# Altium footprint library 00SMD-R-C-L-Q.PCBLIB: 64 footprints (part 2 of 4)
Each footprint in its own frame and in the unit in brackets; x right, y up, seen from the top. Pads: shape width x height; smd on the part's side, far side on the other; paste and mask are expansions set on the pad; w line width, h text height; cw(c..) or ccw(c..) is an arc to the next point about the centre after c.
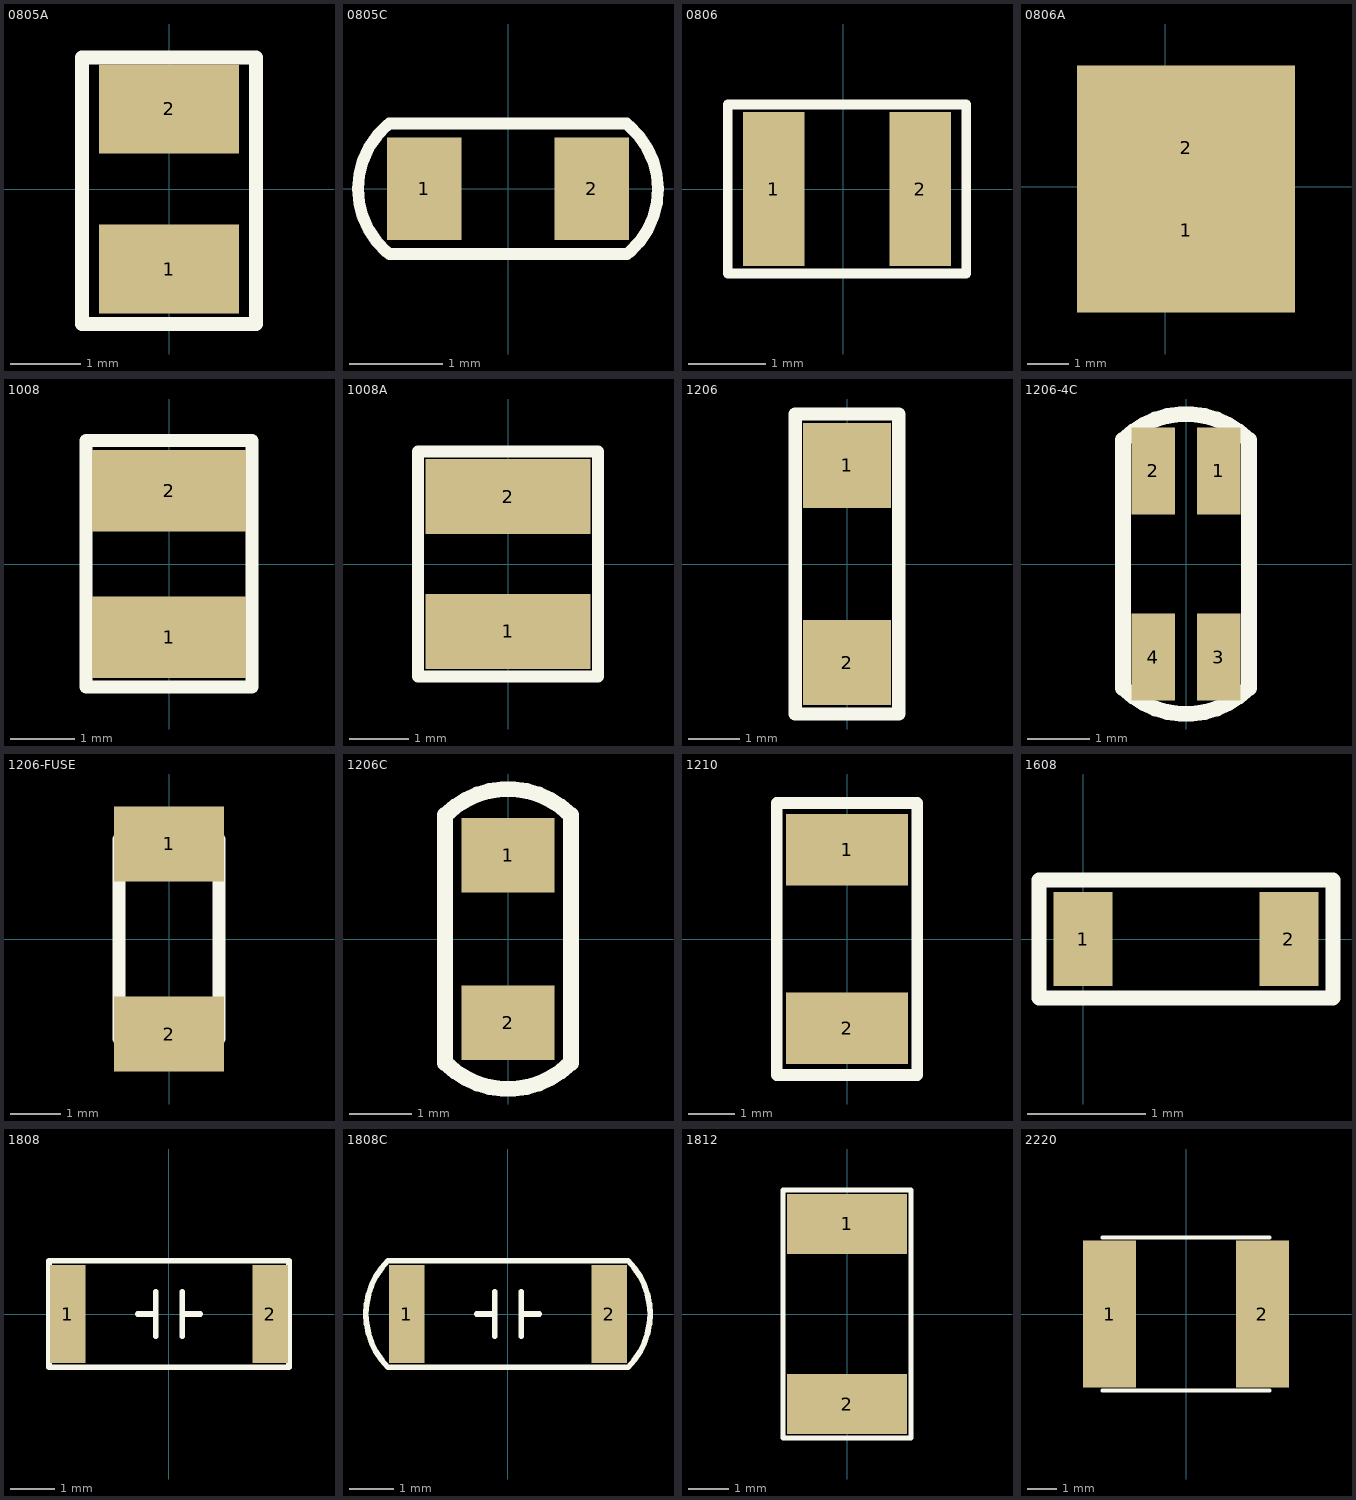
[diagram p1: the footprints below, top view; thin cyan lines are the x and y axes]

## 0805A [mm]
pads (2):
  rect 2x1.27 smd: 1(0,-1.143) 2(0,1.143)
TopOverlay:
  lines w0.203: -1.245,-1.93 -1.245,1.88 1.245,1.88 1.245,-1.93 -1.245,-1.93

## 0805C [mm] "0805C"
pads (2):
  rect 0.8x1.1 smd: 1(-0.9,0) 2(0.9,0)
TopOverlay:
  lines w0.127: -1.3,0.679 ccw(c-0.71,0) -1.3,-0.68 ; -1.275,0.7 1.274,0.7 ; -1.273,-0.699 1.276,-0.699 ; 1.298,0.677 cw(c0.71,-0.004) 1.304,-0.68

## 0806 [mm] "0806"
pads (2):
  rect 0.8x2 smd: 1(-0.9,0) 2(1,0)
TopOverlay:
  lines w0.127: -1.5,-1.1 1.6,-1.1 1.6,1.1 -1.5,1.1 -1.5,-1.1

## 0806A [mm]
pads (2):
  rect 5.3x4 smd: 1(0.5,-1.05) 2(0.5,0.95)
TopOverlay:
  lines w0.203: -1.2,-1.7 1.2,-1.7 1.2,1.7 -1.2,1.7 -1.2,-1.7

## 1008 [mm]
pads (2):
  rect 2.4x1.27 smd: 1(0,-1.143) 2(0,1.143)
TopOverlay:
  lines w0.203: -1.3,-1.918 1.3,-1.918 1.3,1.932 -1.3,1.932 -1.3,-1.918

## 1008A [mil]
pads (2):
  rect 110x50 smd: 1(0,-45) 2(0,45)
TopOverlay:
  lines w8: -60,-75 -60,75 60,75 60,-75 -60,-75

## 1206 [mm] "1206"
pads (2):
  rect 1.7x1.65 smd: 1(0,1.905) 2(0,-1.905)
TopOverlay:
  lines w0.254: -1,-2.9 -1,2.9 1,2.9 1,-2.9 -1,-2.9

## 1206-4C [mm] "1206-4C"
pads (4):
  rect 0.7x1.4 smd: 1(0.525,1.5) 2(-0.525,1.5) 3(0.525,-1.5) 4(-0.525,-1.5)
TopOverlay:
  lines w0.254: -1.016,-2 -1.016,2 ; -1,-2 ccw(c0,-1) 1,-2 ; -1,2 cw(c0,1) 1,2 ; 1.016,-2 1.016,2

## 1206-FUSE [mm] "1206-FUSE"
pads (2):
  rect 2.2x1.5 smd: 1(0,1.905) 2(0,-1.905)
TopOverlay:
  lines w0.254: -1,-2 1,-2 1,2 -1,2 -1,-2

## 1206C [mm] "1206C"
pads (2):
  rect 1.5x1.2 smd: 1(0,1.35) 2(0,-1.35)
TopOverlay:
  lines w0.254: -1.016,-2 -1.016,2 ; -1,-2 ccw(c0,-1) 1,-2 ; -1,2 cw(c0,1) 1,2 ; 1.016,-2 1.016,2

## 1210 [mm]
pads (2):
  rect 2.6x1.524 smd: 1(0,1.905) 2(0,-1.905)
TopOverlay:
  lines w0.254: -1.5,-2.905 -1.5,2.905 1.5,2.905 1.5,-2.905 -1.5,-2.905

## 1608 [mm]
pads (2):
  rect 0.5x0.8 smd: 1(0,0) 2(1.75,0)
TopOverlay:
  lines w0.127: -0.375,-0.5 2.125,-0.5 2.125,0.5 -0.375,0.5 -0.375,-0.5

## 1808 [mm]
pads (2):
  rect 0.8x2.2 smd: 1(-2.275,0) 2(2.275,0)
TopOverlay:
  lines w0.127: -0.7,0 -0.3,0 ; -0.3,-0.5 -0.3,0.5 ; 0.3,-0.5 0.3,0.5 ; 0.3,0 0.7,0 ; -2.7,-1.2 2.7,-1.2 2.7,1.2 -2.7,1.2 -2.7,-1.2

## 1808C [mm] "1808C"
pads (2):
  rect 0.8x2.2 smd: 1(-2.275,0) 2(2.275,0)
TopOverlay:
  lines w0.127: -0.7,0 -0.3,0 ; -0.3,-0.5 -0.3,0.5 ; 0.3,-0.5 0.3,0.5 ; 0.3,0 0.7,0 ; -2.7,-1.2 cw(c-1.5,0) -2.7,1.2 2.7,1.2 cw(c1.5,0) 2.7,-1.2 -2.7,-1.2

## 1812 [mm]
pads (2):
  rect 3x1.5 smd: 1(0,2.25) 2(0,-2.25)
TopOverlay:
  lines w0.127: -1.6,-3.1 1.6,-3.1 1.6,3.1 -1.6,3.1 -1.6,-3.1

## 2220 [mm]
pads (2):
  rect 1.8x5 smd: 1(-2.6,0) 2(2.6,0)
TopOverlay:
  lines w0.127: -2.85,-2.6 2.85,-2.6 ; -2.85,2.6 2.85,2.6